# Altium schematic symbol library BatteriesConnector.SchLib: 2 symbols
Pins are listed as number, name and electrical type; pins without a type are passive.

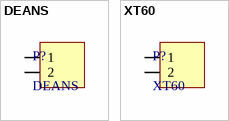
[diagram p0: symbols DEANS to XT60]

## DEANS
designator P?
Supplier 1: Digi-Key; Supplier Part Number 1: N/A277-1667-ND; Mounted: Yes; Package / Case: TH; Volt: N/A
footprint DEANS (Connector; Header; 2 Position)
pins: 1, 2

## XT60
designator P?
Supplier 1: Digi-Key; Supplier Part Number 1: N/A277-1667-ND; Mounted: Yes; Package / Case: TH; Volt: N/A
footprint XT60 (Connector; Header; 2 Position)
pins: 1, 2